# EAGLE library part TPA6120_TPA6120 (library amp)
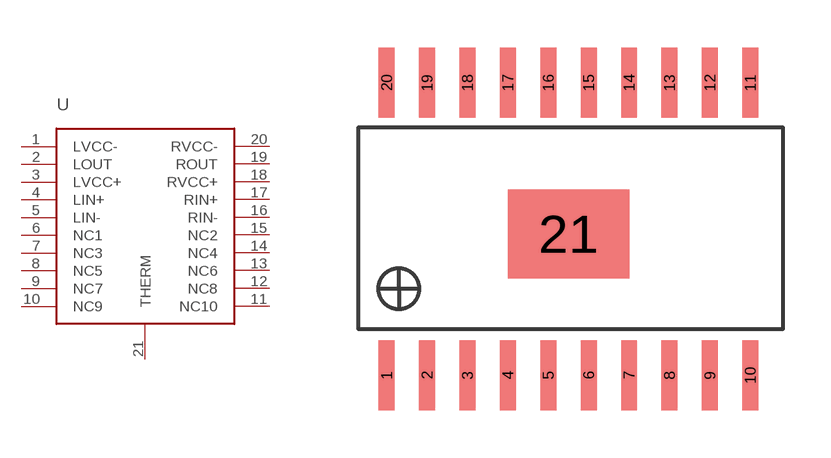
[diagram p0: symbol with the pads of TPA6120_TPA6120; footprint TPA6120_TPA6120]

Designator prefix -

## TPA6120_TPA6120  [TPA6120_TPA6120]
1  LVCC-  in
2  LOUT  out
3  LVCC+  in
4  LIN+  in
5  LIN-  in
6  NC1  nc
7  NC3  nc
8  NC5  nc
9  NC7  nc
10  NC9  nc
11  NC10  nc
12  NC8  nc
13  NC6  nc
14  NC4  nc
15  NC2  nc
16  RIN-  in
17  RIN+  in
18  RVCC+  in
19  ROUT  out
20  RVCC-  in
21  THERM  in

## Footprint TPA6120_TPA6120 (pad centres in mm)
smd 0.5 x 2.2: 1 0.25,1.095; 2 1.52,1.095; 3 2.79,1.095; 4 4.06,1.095; 5 5.33,1.095; 6 6.6,1.095; 7 7.87,1.095; 8 9.14,1.095; 9 10.41,1.095; 10 11.68,1.095; 11 11.68,10.295; 12 10.41,10.295; 13 9.14,10.295; 14 7.87,10.295; 15 6.6,10.295; 16 5.33,10.295; 17 4.06,10.295; 18 2.79,10.295; 19 1.52,10.295; 20 0.25,10.295
smd 3.81 x 2.79: 21 5.965,5.54